# Altium integrated library FS8205.IntLib: 1 symbol
Pins are listed as number, name and electrical type; pins without a type are passive.

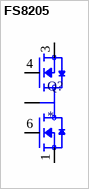
[diagram p0: symbol FS8205]

## FS8205
designator Q?
Dual N-Channel Enhancement Mode Power MOSFET; MP: FS8205; MF: Fortune Semiconductor; Package: Package; Value: *; Price: None; SnapEDA_Link: https://www.snapeda.com/parts/FS8205/Fortune%20Semiconductor/view-part/3216395/?ref=snap; Check_prices: https://www.snapeda.com/parts/FS8205/Fortune%20Semiconductor/view-part/3216395/?ref=eda; Availability: In Stock
footprint SOT95P280X145-6N
pins: 1 S1, 2 D12, 3 S2, 4 G2, 5 D12, 6 G1